# Altium schematic symbol library jlcpcb_2025_04_resistors_extended_1812.schlib: 557 symbols (part 4 of 9)
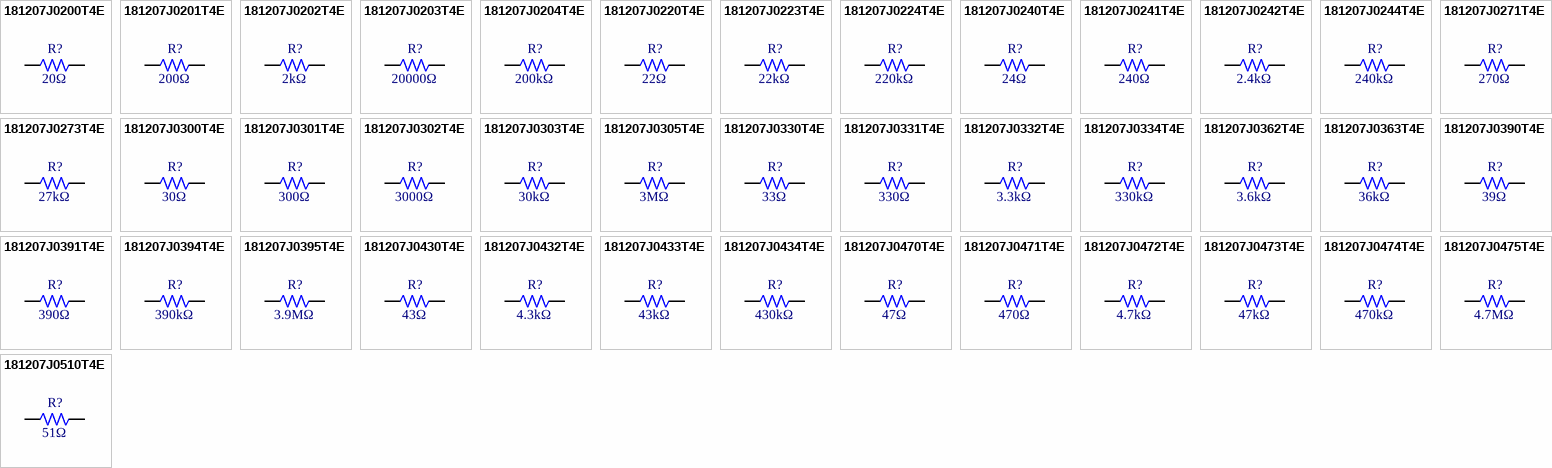
[diagram p16: symbols 181207J0200T4E to 181207J0510T4E]

## 181207J0394T4E
designator R?  Resistance: 390kΩ  (hidden comment: *)
Resistor, 390kΩ, ±5%, 750mW, 200V, ±100ppm/℃, -55℃~+155℃, SMD 1812; Manufacturer: Uniroyal; Manufacturer Part Number: 181207J0394T4E; Supplier 1: LCSC; Supplier Part Number 1: C164857; JLCPCB Part Number: C164857; Power Rating: 750mW; Category: Resistors; Package Size: 1812; JLCPCB Basic Part: Yes; Tolerance: ±5%; Voltage Rating: 200V; Temperature Coefficient: ±100ppm/℃; Temperature Rating: -55℃~+155℃; ComponentLink1Description: Datasheet; ComponentLink1URL: https://wmsc.lcsc.com/wmsc/upload/file/pdf/v2/lcsc/2205312316_UNI-ROYAL-Uniroyal-Elec-181207J0394T4E_C164857.pdf; ComponentLink2Description: JLCPCB Part URL; ComponentLink2URL: https://jlcpcb.com/partdetail/C164857
pins: 1, 2
1 alternate drawing of the same symbol

## 181207J0395T4E
designator R?  Resistance: 3.9MΩ  (hidden comment: *)
Resistor, 3.9MΩ, ±5%, 750mW, 200V, ±100ppm/℃, -55℃~+155℃, SMD 1812; Manufacturer: Uniroyal; Manufacturer Part Number: 181207J0395T4E; Supplier 1: LCSC; Supplier Part Number 1: C421993; JLCPCB Part Number: C421993; Power Rating: 750mW; Category: Resistors; Package Size: 1812; JLCPCB Basic Part: Yes; Tolerance: ±5%; Voltage Rating: 200V; Temperature Coefficient: ±100ppm/℃; Temperature Rating: -55℃~+155℃; ComponentLink1Description: Datasheet; ComponentLink1URL: https://wmsc.lcsc.com/wmsc/upload/file/pdf/v2/lcsc/2205312016_UNI-ROYAL-Uniroyal-Elec-181207J0395T4E_C421993.pdf; ComponentLink2Description: JLCPCB Part URL; ComponentLink2URL: https://jlcpcb.com/partdetail/C421993
pins: 1, 2
1 alternate drawing of the same symbol

## 181207J0430T4E
designator R?  Resistance: 43Ω  (hidden comment: *)
Resistor, 43Ω, ±5%, 750mW, 200V, ±100ppm/℃, -55℃~+155℃, SMD 1812; Manufacturer: Uniroyal; Manufacturer Part Number: 181207J0430T4E; Supplier 1: LCSC; Supplier Part Number 1: C421990; JLCPCB Part Number: C421990; Power Rating: 750mW; Category: Resistors; Package Size: 1812; JLCPCB Basic Part: Yes; Tolerance: ±5%; Voltage Rating: 200V; Temperature Coefficient: ±100ppm/℃; Temperature Rating: -55℃~+155℃; ComponentLink1Description: Datasheet; ComponentLink1URL: https://wmsc.lcsc.com/wmsc/upload/file/pdf/v2/lcsc/2205312016_UNI-ROYAL-Uniroyal-Elec-181207J0430T4E_C421990.pdf; ComponentLink2Description: JLCPCB Part URL; ComponentLink2URL: https://jlcpcb.com/partdetail/C421990
pins: 1, 2
1 alternate drawing of the same symbol

## 181207J0432T4E
designator R?  Resistance: 4.3kΩ  (hidden comment: *)
Resistor, 4.3kΩ, ±5%, 750mW, 200V, ±100ppm/℃, -55℃~+155℃, SMD 1812; Manufacturer: Uniroyal; Manufacturer Part Number: 181207J0432T4E; Supplier 1: LCSC; Supplier Part Number 1: C421988; JLCPCB Part Number: C421988; Power Rating: 750mW; Category: Resistors; Package Size: 1812; JLCPCB Basic Part: Yes; Tolerance: ±5%; Voltage Rating: 200V; Temperature Coefficient: ±100ppm/℃; Temperature Rating: -55℃~+155℃; ComponentLink1Description: Datasheet; ComponentLink1URL: https://wmsc.lcsc.com/wmsc/upload/file/pdf/v2/lcsc/2205312016_UNI-ROYAL-Uniroyal-Elec-181207J0432T4E_C421988.pdf; ComponentLink2Description: JLCPCB Part URL; ComponentLink2URL: https://jlcpcb.com/partdetail/C421988
pins: 1, 2
1 alternate drawing of the same symbol

## 181207J0433T4E
designator R?  Resistance: 43kΩ  (hidden comment: *)
Resistor, 43kΩ, ±5%, 750mW, 200V, ±100ppm/℃, -55℃~+155℃, SMD 1812; Manufacturer: Uniroyal; Manufacturer Part Number: 181207J0433T4E; Supplier 1: LCSC; Supplier Part Number 1: C421987; JLCPCB Part Number: C421987; Power Rating: 750mW; Category: Resistors; Package Size: 1812; JLCPCB Basic Part: Yes; Tolerance: ±5%; Voltage Rating: 200V; Temperature Coefficient: ±100ppm/℃; Temperature Rating: -55℃~+155℃; ComponentLink1Description: Datasheet; ComponentLink1URL: https://wmsc.lcsc.com/wmsc/upload/file/pdf/v2/lcsc/2205312016_UNI-ROYAL-Uniroyal-Elec-181207J0433T4E_C421987.pdf; ComponentLink2Description: JLCPCB Part URL; ComponentLink2URL: https://jlcpcb.com/partdetail/C421987
pins: 1, 2
1 alternate drawing of the same symbol

## 181207J0434T4E
designator R?  Resistance: 430kΩ  (hidden comment: *)
Resistor, 430kΩ, ±5%, 750mW, 200V, ±100ppm/℃, -55℃~+155℃, SMD 1812; Manufacturer: Uniroyal; Manufacturer Part Number: 181207J0434T4E; Supplier 1: LCSC; Supplier Part Number 1: C421986; JLCPCB Part Number: C421986; Power Rating: 750mW; Category: Resistors; Package Size: 1812; JLCPCB Basic Part: Yes; Tolerance: ±5%; Voltage Rating: 200V; Temperature Coefficient: ±100ppm/℃; Temperature Rating: -55℃~+155℃; ComponentLink1Description: Datasheet; ComponentLink1URL: https://wmsc.lcsc.com/wmsc/upload/file/pdf/v2/lcsc/2205312016_UNI-ROYAL-Uniroyal-Elec-181207J0434T4E_C421986.pdf; ComponentLink2Description: JLCPCB Part URL; ComponentLink2URL: https://jlcpcb.com/partdetail/C421986
pins: 1, 2
1 alternate drawing of the same symbol

## 181207J0470T4E
designator R?  Resistance: 47Ω  (hidden comment: *)
Resistor, 47Ω, ±5%, 750mW, 200V, ±100ppm/℃, -55℃~+155℃, SMD 1812; Manufacturer: Uniroyal; Manufacturer Part Number: 181207J0470T4E; Supplier 1: LCSC; Supplier Part Number 1: C62981; JLCPCB Part Number: C62981; Power Rating: 750mW; Category: Resistors; Package Size: 1812; JLCPCB Basic Part: Yes; Tolerance: ±5%; Voltage Rating: 200V; Temperature Coefficient: ±100ppm/℃; Temperature Rating: -55℃~+155℃; ComponentLink1Description: Datasheet; ComponentLink1URL: https://wmsc.lcsc.com/wmsc/upload/file/pdf/v2/lcsc/2205312345_UNI-ROYAL-Uniroyal-Elec-181207J0470T4E_C62981.pdf; ComponentLink2Description: JLCPCB Part URL; ComponentLink2URL: https://jlcpcb.com/partdetail/C62981
pins: 1, 2
1 alternate drawing of the same symbol

## 181207J0471T4E
designator R?  Resistance: 470Ω  (hidden comment: *)
Resistor, 470Ω, ±5%, 750mW, 200V, ±100ppm/℃, -55℃~+155℃, SMD 1812; Manufacturer: Uniroyal; Manufacturer Part Number: 181207J0471T4E; Supplier 1: LCSC; Supplier Part Number 1: C421984; JLCPCB Part Number: C421984; Power Rating: 750mW; Category: Resistors; Package Size: 1812; JLCPCB Basic Part: Yes; Tolerance: ±5%; Voltage Rating: 200V; Temperature Coefficient: ±100ppm/℃; Temperature Rating: -55℃~+155℃; ComponentLink1Description: Datasheet; ComponentLink1URL: https://wmsc.lcsc.com/wmsc/upload/file/pdf/v2/lcsc/2205312016_UNI-ROYAL-Uniroyal-Elec-181207J0471T4E_C421984.pdf; ComponentLink2Description: JLCPCB Part URL; ComponentLink2URL: https://jlcpcb.com/partdetail/C421984
pins: 1, 2
1 alternate drawing of the same symbol

## 181207J0472T4E
designator R?  Resistance: 4.7kΩ  (hidden comment: *)
Resistor, 4.7kΩ, ±5%, 750mW, 200V, ±100ppm/℃, -55℃~+155℃, SMD 1812; Manufacturer: Uniroyal; Manufacturer Part Number: 181207J0472T4E; Supplier 1: LCSC; Supplier Part Number 1: C621100; JLCPCB Part Number: C621100; Power Rating: 750mW; Category: Resistors; Package Size: 1812; JLCPCB Basic Part: Yes; Tolerance: ±5%; Voltage Rating: 200V; Temperature Coefficient: ±100ppm/℃; Temperature Rating: -55℃~+155℃; ComponentLink1Description: Datasheet; ComponentLink1URL: https://wmsc.lcsc.com/wmsc/upload/file/pdf/v2/lcsc/2206011100_UNI-ROYAL-Uniroyal-Elec-181207J0472T4E_C621100.pdf; ComponentLink2Description: JLCPCB Part URL; ComponentLink2URL: https://jlcpcb.com/partdetail/C621100
pins: 1, 2
1 alternate drawing of the same symbol

## 181207J0473T4E
designator R?  Resistance: 47kΩ  (hidden comment: *)
Resistor, 47kΩ, ±5%, 750mW, 200V, ±100ppm/℃, -55℃~+155℃, SMD 1812; Manufacturer: Uniroyal; Manufacturer Part Number: 181207J0473T4E; Supplier 1: LCSC; Supplier Part Number 1: C621102; JLCPCB Part Number: C621102; Power Rating: 750mW; Category: Resistors; Package Size: 1812; JLCPCB Basic Part: Yes; Tolerance: ±5%; Voltage Rating: 200V; Temperature Coefficient: ±100ppm/℃; Temperature Rating: -55℃~+155℃; ComponentLink1Description: Datasheet; ComponentLink1URL: https://wmsc.lcsc.com/wmsc/upload/file/pdf/v2/lcsc/2206011100_UNI-ROYAL-Uniroyal-Elec-181207J0473T4E_C621102.pdf; ComponentLink2Description: JLCPCB Part URL; ComponentLink2URL: https://jlcpcb.com/partdetail/C621102
pins: 1, 2
1 alternate drawing of the same symbol

## 181207J0474T4E
designator R?  Resistance: 470kΩ  (hidden comment: *)
Resistor, 470kΩ, ±5%, 750mW, 200V, ±100ppm/℃, -55℃~+155℃, SMD 1812; Manufacturer: Uniroyal; Manufacturer Part Number: 181207J0474T4E; Supplier 1: LCSC; Supplier Part Number 1: C621101; JLCPCB Part Number: C621101; Power Rating: 750mW; Category: Resistors; Package Size: 1812; JLCPCB Basic Part: Yes; Tolerance: ±5%; Voltage Rating: 200V; Temperature Coefficient: ±100ppm/℃; Temperature Rating: -55℃~+155℃; ComponentLink1Description: Datasheet; ComponentLink1URL: https://wmsc.lcsc.com/wmsc/upload/file/pdf/v2/lcsc/2206011100_UNI-ROYAL-Uniroyal-Elec-181207J0474T4E_C621101.pdf; ComponentLink2Description: JLCPCB Part URL; ComponentLink2URL: https://jlcpcb.com/partdetail/C621101
pins: 1, 2
1 alternate drawing of the same symbol

## 181207J0475T4E
designator R?  Resistance: 4.7MΩ  (hidden comment: *)
Resistor, 4.7MΩ, ±5%, 750mW, 200V, ±100ppm/℃, -55℃~+155℃, SMD 1812; Manufacturer: Uniroyal; Manufacturer Part Number: 181207J0475T4E; Supplier 1: LCSC; Supplier Part Number 1: C421983; JLCPCB Part Number: C421983; Power Rating: 750mW; Category: Resistors; Package Size: 1812; JLCPCB Basic Part: Yes; Tolerance: ±5%; Voltage Rating: 200V; Temperature Coefficient: ±100ppm/℃; Temperature Rating: -55℃~+155℃; ComponentLink1Description: Datasheet; ComponentLink1URL: https://wmsc.lcsc.com/wmsc/upload/file/pdf/v2/lcsc/2205312016_UNI-ROYAL-Uniroyal-Elec-181207J0475T4E_C421983.pdf; ComponentLink2Description: JLCPCB Part URL; ComponentLink2URL: https://jlcpcb.com/partdetail/C421983
pins: 1, 2
1 alternate drawing of the same symbol

## 181207J0510T4E
designator R?  Resistance: 51Ω  (hidden comment: *)
Resistor, 51Ω, ±5%, 750mW, 200V, ±100ppm/℃, -55℃~+155℃, SMD 1812; Manufacturer: Uniroyal; Manufacturer Part Number: 181207J0510T4E; Supplier 1: LCSC; Supplier Part Number 1: C621106; JLCPCB Part Number: C621106; Power Rating: 750mW; Category: Resistors; Package Size: 1812; JLCPCB Basic Part: Yes; Tolerance: ±5%; Voltage Rating: 200V; Temperature Coefficient: ±100ppm/℃; Temperature Rating: -55℃~+155℃; ComponentLink1Description: Datasheet; ComponentLink1URL: https://wmsc.lcsc.com/wmsc/upload/file/pdf/v2/lcsc/2206011100_UNI-ROYAL-Uniroyal-Elec-181207J0510T4E_C621106.pdf; ComponentLink2Description: JLCPCB Part URL; ComponentLink2URL: https://jlcpcb.com/partdetail/C621106
pins: 1, 2
1 alternate drawing of the same symbol

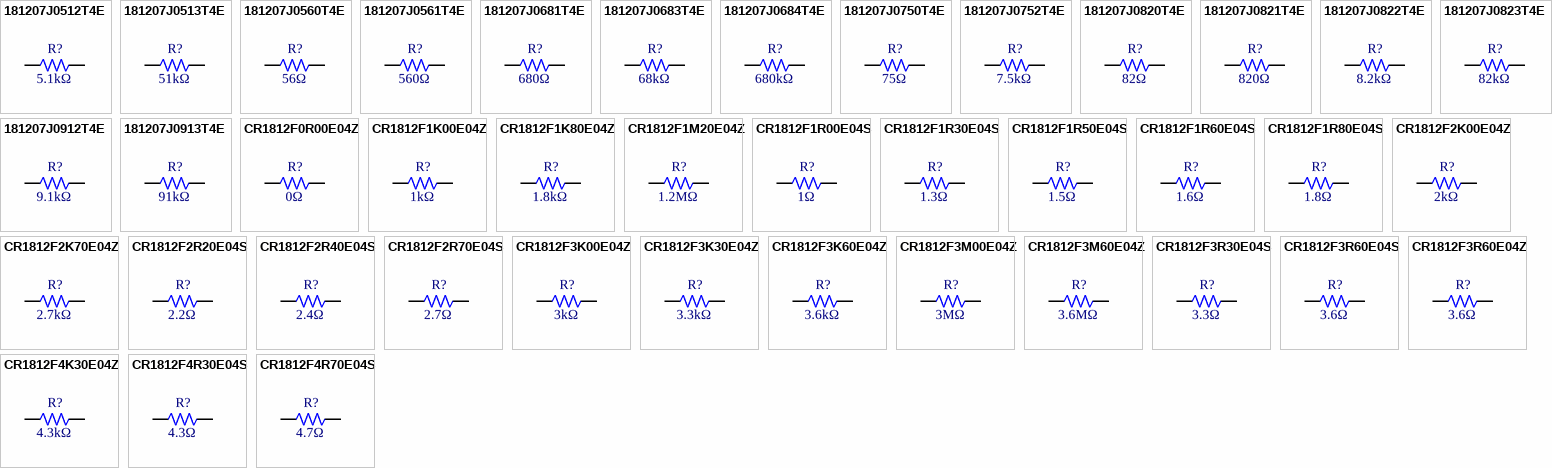
[diagram p5: symbols 181207J0512T4E to CR1812F4R70E04S]

## 181207J0512T4E
designator R?  Resistance: 5.1kΩ  (hidden comment: *)
Resistor, 5.1kΩ, ±5%, 750mW, 200V, ±100ppm/℃, -55℃~+155℃, SMD 1812; Manufacturer: Uniroyal; Manufacturer Part Number: 181207J0512T4E; Supplier 1: LCSC; Supplier Part Number 1: C621103; JLCPCB Part Number: C621103; Power Rating: 750mW; Category: Resistors; Package Size: 1812; JLCPCB Basic Part: Yes; Tolerance: ±5%; Voltage Rating: 200V; Temperature Coefficient: ±100ppm/℃; Temperature Rating: -55℃~+155℃; ComponentLink1Description: Datasheet; ComponentLink1URL: https://wmsc.lcsc.com/wmsc/upload/file/pdf/v2/lcsc/2206011100_UNI-ROYAL-Uniroyal-Elec-181207J0512T4E_C621103.pdf; ComponentLink2Description: JLCPCB Part URL; ComponentLink2URL: https://jlcpcb.com/partdetail/C621103
pins: 1, 2
1 alternate drawing of the same symbol

## 181207J0513T4E
designator R?  Resistance: 51kΩ  (hidden comment: *)
Resistor, 51kΩ, ±5%, 750mW, 200V, ±100ppm/℃, -55℃~+155℃, SMD 1812; Manufacturer: Uniroyal; Manufacturer Part Number: 181207J0513T4E; Supplier 1: LCSC; Supplier Part Number 1: C65311; JLCPCB Part Number: C65311; Power Rating: 750mW; Category: Resistors; Package Size: 1812; JLCPCB Basic Part: Yes; Tolerance: ±5%; Voltage Rating: 200V; Temperature Coefficient: ±100ppm/℃; Temperature Rating: -55℃~+155℃; ComponentLink1Description: Datasheet; ComponentLink1URL: https://wmsc.lcsc.com/wmsc/upload/file/pdf/v2/lcsc/2205312345_UNI-ROYAL-Uniroyal-Elec-181207J0513T4E_C65311.pdf; ComponentLink2Description: JLCPCB Part URL; ComponentLink2URL: https://jlcpcb.com/partdetail/C65311
pins: 1, 2
1 alternate drawing of the same symbol

## 181207J0560T4E
designator R?  Resistance: 56Ω  (hidden comment: *)
Resistor, 56Ω, ±5%, 750mW, 200V, ±100ppm/℃, -55℃~+155℃, SMD 1812; Manufacturer: Uniroyal; Manufacturer Part Number: 181207J0560T4E; Supplier 1: LCSC; Supplier Part Number 1: C621107; JLCPCB Part Number: C621107; Power Rating: 750mW; Category: Resistors; Package Size: 1812; JLCPCB Basic Part: Yes; Tolerance: ±5%; Voltage Rating: 200V; Temperature Coefficient: ±100ppm/℃; Temperature Rating: -55℃~+155℃; ComponentLink1Description: Datasheet; ComponentLink1URL: https://wmsc.lcsc.com/wmsc/upload/file/pdf/v2/lcsc/2206011100_UNI-ROYAL-Uniroyal-Elec-181207J0560T4E_C621107.pdf; ComponentLink2Description: JLCPCB Part URL; ComponentLink2URL: https://jlcpcb.com/partdetail/C621107
pins: 1, 2
1 alternate drawing of the same symbol

## 181207J0561T4E
designator R?  Resistance: 560Ω  (hidden comment: *)
Resistor, 560Ω, ±5%, 750mW, 200V, ±100ppm/℃, -55℃~+155℃, SMD 1812; Manufacturer: Uniroyal; Manufacturer Part Number: 181207J0561T4E; Supplier 1: LCSC; Supplier Part Number 1: C60197; JLCPCB Part Number: C60197; Power Rating: 750mW; Category: Resistors; Package Size: 1812; JLCPCB Basic Part: Yes; Tolerance: ±5%; Voltage Rating: 200V; Temperature Coefficient: ±100ppm/℃; Temperature Rating: -55℃~+155℃; ComponentLink1Description: Datasheet; ComponentLink1URL: https://wmsc.lcsc.com/wmsc/upload/file/pdf/v2/lcsc/2205312345_UNI-ROYAL-Uniroyal-Elec-181207J0561T4E_C60197.pdf; ComponentLink2Description: JLCPCB Part URL; ComponentLink2URL: https://jlcpcb.com/partdetail/C60197
pins: 1, 2
1 alternate drawing of the same symbol

## 181207J0681T4E
designator R?  Resistance: 680Ω  (hidden comment: *)
Resistor, 680Ω, ±5%, 750mW, 200V, ±100ppm/℃, -55℃~+155℃, SMD 1812; Manufacturer: Uniroyal; Manufacturer Part Number: 181207J0681T4E; Supplier 1: LCSC; Supplier Part Number 1: C621110; JLCPCB Part Number: C621110; Power Rating: 750mW; Category: Resistors; Package Size: 1812; JLCPCB Basic Part: Yes; Tolerance: ±5%; Voltage Rating: 200V; Temperature Coefficient: ±100ppm/℃; Temperature Rating: -55℃~+155℃; ComponentLink1Description: Datasheet; ComponentLink1URL: https://wmsc.lcsc.com/wmsc/upload/file/pdf/v2/lcsc/2206011100_UNI-ROYAL-Uniroyal-Elec-181207J0681T4E_C621110.pdf; ComponentLink2Description: JLCPCB Part URL; ComponentLink2URL: https://jlcpcb.com/partdetail/C621110
pins: 1, 2
1 alternate drawing of the same symbol

## 181207J0683T4E
designator R?  Resistance: 68kΩ  (hidden comment: *)
Resistor, 68kΩ, ±5%, 750mW, 200V, ±100ppm/℃, -55℃~+155℃, SMD 1812; Manufacturer: Uniroyal; Manufacturer Part Number: 181207J0683T4E; Supplier 1: LCSC; Supplier Part Number 1: C2765513; JLCPCB Part Number: C2765513; Power Rating: 750mW; Category: Resistors; Package Size: 1812; JLCPCB Basic Part: Yes; Tolerance: ±5%; Voltage Rating: 200V; Temperature Coefficient: ±100ppm/℃; Temperature Rating: -55℃~+155℃; ComponentLink1Description: Datasheet; ComponentLink1URL: https://wmsc.lcsc.com/wmsc/upload/file/pdf/v2/lcsc/2206011045_UNI-ROYAL-Uniroyal-Elec-181207J0683T4E_C2765513.pdf; ComponentLink2Description: JLCPCB Part URL; ComponentLink2URL: https://jlcpcb.com/partdetail/C2765513
pins: 1, 2
1 alternate drawing of the same symbol

## 181207J0684T4E
designator R?  Resistance: 680kΩ  (hidden comment: *)
Resistor, 680kΩ, ±5%, 750mW, 200V, ±100ppm/℃, -55℃~+155℃, SMD 1812; Manufacturer: Uniroyal; Manufacturer Part Number: 181207J0684T4E; Supplier 1: LCSC; Supplier Part Number 1: C421973; JLCPCB Part Number: C421973; Power Rating: 750mW; Category: Resistors; Package Size: 1812; JLCPCB Basic Part: Yes; Tolerance: ±5%; Voltage Rating: 200V; Temperature Coefficient: ±100ppm/℃; Temperature Rating: -55℃~+155℃; ComponentLink1Description: Datasheet; ComponentLink1URL: https://wmsc.lcsc.com/wmsc/upload/file/pdf/v2/lcsc/2205312016_UNI-ROYAL-Uniroyal-Elec-181207J0684T4E_C421973.pdf; ComponentLink2Description: JLCPCB Part URL; ComponentLink2URL: https://jlcpcb.com/partdetail/C421973
pins: 1, 2
1 alternate drawing of the same symbol

## 181207J0750T4E
designator R?  Resistance: 75Ω  (hidden comment: *)
Resistor, 75Ω, ±5%, 750mW, 200V, ±100ppm/℃, -55℃~+155℃, SMD 1812; Manufacturer: Uniroyal; Manufacturer Part Number: 181207J0750T4E; Supplier 1: LCSC; Supplier Part Number 1: C421972; JLCPCB Part Number: C421972; Power Rating: 750mW; Category: Resistors; Package Size: 1812; JLCPCB Basic Part: Yes; Tolerance: ±5%; Voltage Rating: 200V; Temperature Coefficient: ±100ppm/℃; Temperature Rating: -55℃~+155℃; ComponentLink1Description: Datasheet; ComponentLink1URL: https://wmsc.lcsc.com/wmsc/upload/file/pdf/v2/lcsc/2205312016_UNI-ROYAL-Uniroyal-Elec-181207J0750T4E_C421972.pdf; ComponentLink2Description: JLCPCB Part URL; ComponentLink2URL: https://jlcpcb.com/partdetail/C421972
pins: 1, 2
1 alternate drawing of the same symbol

## 181207J0752T4E
designator R?  Resistance: 7.5kΩ  (hidden comment: *)
Resistor, 7.5kΩ, ±5%, 750mW, 200V, ±100ppm/℃, -55℃~+155℃, SMD 1812; Manufacturer: Uniroyal; Manufacturer Part Number: 181207J0752T4E; Supplier 1: LCSC; Supplier Part Number 1: C421970; JLCPCB Part Number: C421970; Power Rating: 750mW; Category: Resistors; Package Size: 1812; JLCPCB Basic Part: Yes; Tolerance: ±5%; Voltage Rating: 200V; Temperature Coefficient: ±100ppm/℃; Temperature Rating: -55℃~+155℃; ComponentLink1Description: Datasheet; ComponentLink1URL: https://wmsc.lcsc.com/wmsc/upload/file/pdf/v2/lcsc/2205312016_UNI-ROYAL-Uniroyal-Elec-181207J0752T4E_C421970.pdf; ComponentLink2Description: JLCPCB Part URL; ComponentLink2URL: https://jlcpcb.com/partdetail/C421970
pins: 1, 2
1 alternate drawing of the same symbol

## 181207J0820T4E
designator R?  Resistance: 82Ω  (hidden comment: *)
Resistor, 82Ω, ±5%, 750mW, 200V, ±100ppm/℃, -55℃~+155℃, SMD 1812; Manufacturer: Uniroyal; Manufacturer Part Number: 181207J0820T4E; Supplier 1: LCSC; Supplier Part Number 1: C421966; JLCPCB Part Number: C421966; Power Rating: 750mW; Category: Resistors; Package Size: 1812; JLCPCB Basic Part: Yes; Tolerance: ±5%; Voltage Rating: 200V; Temperature Coefficient: ±100ppm/℃; Temperature Rating: -55℃~+155℃; ComponentLink1Description: Datasheet; ComponentLink1URL: https://wmsc.lcsc.com/wmsc/upload/file/pdf/v2/lcsc/2205312016_UNI-ROYAL-Uniroyal-Elec-181207J0820T4E_C421966.pdf; ComponentLink2Description: JLCPCB Part URL; ComponentLink2URL: https://jlcpcb.com/partdetail/C421966
pins: 1, 2
1 alternate drawing of the same symbol

## 181207J0821T4E
designator R?  Resistance: 820Ω  (hidden comment: *)
Resistor, 820Ω, ±5%, 750mW, 200V, ±100ppm/℃, -55℃~+155℃, SMD 1812; Manufacturer: Uniroyal; Manufacturer Part Number: 181207J0821T4E; Supplier 1: LCSC; Supplier Part Number 1: C421965; JLCPCB Part Number: C421965; Power Rating: 750mW; Category: Resistors; Package Size: 1812; JLCPCB Basic Part: Yes; Tolerance: ±5%; Voltage Rating: 200V; Temperature Coefficient: ±100ppm/℃; Temperature Rating: -55℃~+155℃; ComponentLink1Description: Datasheet; ComponentLink1URL: https://wmsc.lcsc.com/wmsc/upload/file/pdf/v2/lcsc/2205312016_UNI-ROYAL-Uniroyal-Elec-181207J0821T4E_C421965.pdf; ComponentLink2Description: JLCPCB Part URL; ComponentLink2URL: https://jlcpcb.com/partdetail/C421965
pins: 1, 2
1 alternate drawing of the same symbol

## 181207J0822T4E
designator R?  Resistance: 8.2kΩ  (hidden comment: *)
Resistor, 8.2kΩ, ±5%, 750mW, 200V, ±100ppm/℃, -55℃~+155℃, SMD 1812; Manufacturer: Uniroyal; Manufacturer Part Number: 181207J0822T4E; Supplier 1: LCSC; Supplier Part Number 1: C421964; JLCPCB Part Number: C421964; Power Rating: 750mW; Category: Resistors; Package Size: 1812; JLCPCB Basic Part: Yes; Tolerance: ±5%; Voltage Rating: 200V; Temperature Coefficient: ±100ppm/℃; Temperature Rating: -55℃~+155℃; ComponentLink1Description: Datasheet; ComponentLink1URL: https://wmsc.lcsc.com/wmsc/upload/file/pdf/v2/lcsc/2205312016_UNI-ROYAL-Uniroyal-Elec-181207J0822T4E_C421964.pdf; ComponentLink2Description: JLCPCB Part URL; ComponentLink2URL: https://jlcpcb.com/partdetail/C421964
pins: 1, 2
1 alternate drawing of the same symbol

## 181207J0823T4E
designator R?  Resistance: 82kΩ  (hidden comment: *)
Resistor, 82kΩ, ±5%, 750mW, 200V, ±100ppm/℃, -55℃~+155℃, SMD 1812; Manufacturer: Uniroyal; Manufacturer Part Number: 181207J0823T4E; Supplier 1: LCSC; Supplier Part Number 1: C421963; JLCPCB Part Number: C421963; Power Rating: 750mW; Category: Resistors; Package Size: 1812; JLCPCB Basic Part: Yes; Tolerance: ±5%; Voltage Rating: 200V; Temperature Coefficient: ±100ppm/℃; Temperature Rating: -55℃~+155℃; ComponentLink1Description: Datasheet; ComponentLink1URL: https://wmsc.lcsc.com/wmsc/upload/file/pdf/v2/lcsc/2205312016_UNI-ROYAL-Uniroyal-Elec-181207J0823T4E_C421963.pdf; ComponentLink2Description: JLCPCB Part URL; ComponentLink2URL: https://jlcpcb.com/partdetail/C421963
pins: 1, 2
1 alternate drawing of the same symbol

## 181207J0912T4E
designator R?  Resistance: 9.1kΩ  (hidden comment: *)
Resistor, 9.1kΩ, ±5%, 750mW, 200V, ±100ppm/℃, -55℃~+155℃, SMD 1812; Manufacturer: Uniroyal; Manufacturer Part Number: 181207J0912T4E; Supplier 1: LCSC; Supplier Part Number 1: C421958; JLCPCB Part Number: C421958; Power Rating: 750mW; Category: Resistors; Package Size: 1812; JLCPCB Basic Part: Yes; Tolerance: ±5%; Voltage Rating: 200V; Temperature Coefficient: ±100ppm/℃; Temperature Rating: -55℃~+155℃; ComponentLink1Description: Datasheet; ComponentLink1URL: https://wmsc.lcsc.com/wmsc/upload/file/pdf/v2/lcsc/2205312016_UNI-ROYAL-Uniroyal-Elec-181207J0912T4E_C421958.pdf; ComponentLink2Description: JLCPCB Part URL; ComponentLink2URL: https://jlcpcb.com/partdetail/C421958
pins: 1, 2
1 alternate drawing of the same symbol

## 181207J0913T4E
designator R?  Resistance: 91kΩ  (hidden comment: *)
Resistor, 91kΩ, ±5%, 750mW, 200V, ±100ppm/℃, -55℃~+155℃, SMD 1812; Manufacturer: Uniroyal; Manufacturer Part Number: 181207J0913T4E; Supplier 1: LCSC; Supplier Part Number 1: C421957; JLCPCB Part Number: C421957; Power Rating: 750mW; Category: Resistors; Package Size: 1812; JLCPCB Basic Part: Yes; Tolerance: ±5%; Voltage Rating: 200V; Temperature Coefficient: ±100ppm/℃; Temperature Rating: -55℃~+155℃; ComponentLink1Description: Datasheet; ComponentLink1URL: https://wmsc.lcsc.com/wmsc/upload/file/pdf/v2/lcsc/2205312016_UNI-ROYAL-Uniroyal-Elec-181207J0913T4E_C421957.pdf; ComponentLink2Description: JLCPCB Part URL; ComponentLink2URL: https://jlcpcb.com/partdetail/C421957
pins: 1, 2
1 alternate drawing of the same symbol

## CR1812F0R00E04Z
designator R?  Resistance: 0Ω  (hidden comment: *)
Resistor, 0Ω, ±1%, 500mW, 200V, -55℃~+155℃, SMD 1812; Manufacturer: Uniroyal; Manufacturer Part Number: CR1812F0R00E04Z; Supplier 1: LCSC; Supplier Part Number 1: C245661; JLCPCB Part Number: C245661; Power Rating: 500mW; Category: Resistors; Package Size: 1812; JLCPCB Basic Part: Yes; Tolerance: ±1%; Voltage Rating: 200V; Temperature Rating: -55℃~+155℃; ComponentLink1Description: Datasheet; ComponentLink1URL: https://wmsc.lcsc.com/wmsc/upload/file/pdf/v2/lcsc/2304140030_Ever-Ohms-Tech-CR1812F0R00E04Z_C245661.pdf; ComponentLink2Description: JLCPCB Part URL; ComponentLink2URL: https://jlcpcb.com/partdetail/C245661
pins: 1, 2
1 alternate drawing of the same symbol

## CR1812F1K00E04Z
designator R?  Resistance: 1kΩ  (hidden comment: *)
Resistor, 1kΩ, ±1%, 500mW, 200V, ±100ppm/℃, -55℃~+155℃, SMD 1812; Manufacturer: Uniroyal; Manufacturer Part Number: CR1812F1K00E04Z; Supplier 1: LCSC; Supplier Part Number 1: C174736; JLCPCB Part Number: C174736; Power Rating: 500mW; Category: Resistors; Package Size: 1812; JLCPCB Basic Part: Yes; Tolerance: ±1%; Voltage Rating: 200V; Temperature Coefficient: ±100ppm/℃; Temperature Rating: -55℃~+155℃; ComponentLink1Description: Datasheet; ComponentLink1URL: https://wmsc.lcsc.com/wmsc/upload/file/pdf/v2/lcsc/2304140030_Ever-Ohms-Tech-CR1812F1K00E04Z_C174736.pdf; ComponentLink2Description: JLCPCB Part URL; ComponentLink2URL: https://jlcpcb.com/partdetail/C174736
pins: 1, 2
1 alternate drawing of the same symbol

## CR1812F1K80E04Z
designator R?  Resistance: 1.8kΩ  (hidden comment: *)
Resistor, 1.8kΩ, ±1%, 500mW, 200V, ±100ppm/℃, -55℃~+155℃, SMD 1812; Manufacturer: Uniroyal; Manufacturer Part Number: CR1812F1K80E04Z; Supplier 1: LCSC; Supplier Part Number 1: C174740; JLCPCB Part Number: C174740; Power Rating: 500mW; Category: Resistors; Package Size: 1812; JLCPCB Basic Part: Yes; Tolerance: ±1%; Voltage Rating: 200V; Temperature Coefficient: ±100ppm/℃; Temperature Rating: -55℃~+155℃; ComponentLink1Description: Datasheet; ComponentLink1URL: https://wmsc.lcsc.com/wmsc/upload/file/pdf/v2/lcsc/2304140030_Ever-Ohms-Tech-CR1812F1K80E04Z_C174740.pdf; ComponentLink2Description: JLCPCB Part URL; ComponentLink2URL: https://jlcpcb.com/partdetail/C174740
pins: 1, 2
1 alternate drawing of the same symbol

## CR1812F1M20E04Z
designator R?  Resistance: 1.2MΩ  (hidden comment: *)
Resistor, 1.2MΩ, ±1%, 500mW, 200V, ±100ppm/℃, -55℃~+155℃, SMD 1812; Manufacturer: Uniroyal; Manufacturer Part Number: CR1812F1M20E04Z; Supplier 1: LCSC; Supplier Part Number 1: C174792; JLCPCB Part Number: C174792; Power Rating: 500mW; Category: Resistors; Package Size: 1812; JLCPCB Basic Part: Yes; Tolerance: ±1%; Voltage Rating: 200V; Temperature Coefficient: ±100ppm/℃; Temperature Rating: -55℃~+155℃; ComponentLink1Description: Datasheet; ComponentLink1URL: https://wmsc.lcsc.com/wmsc/upload/file/pdf/v2/lcsc/2304140030_Ever-Ohms-Tech-CR1812F1M20E04Z_C174792.pdf; ComponentLink2Description: JLCPCB Part URL; ComponentLink2URL: https://jlcpcb.com/partdetail/C174792
pins: 1, 2
1 alternate drawing of the same symbol

## CR1812F1R00E04S
designator R?  Resistance: 1Ω  (hidden comment: *)
Resistor, 1Ω, ±1%, 750mW, 200V, ±400ppm/℃, -55℃~+155℃, SMD 1812; Manufacturer: Uniroyal; Manufacturer Part Number: CR1812F1R00E04S; Supplier 1: LCSC; Supplier Part Number 1: C174678; JLCPCB Part Number: C174678; Power Rating: 750mW; Category: Resistors; Package Size: 1812; JLCPCB Basic Part: Yes; Tolerance: ±1%; Voltage Rating: 200V; Temperature Coefficient: ±400ppm/℃; Temperature Rating: -55℃~+155℃; ComponentLink1Description: Datasheet; ComponentLink1URL: https://wmsc.lcsc.com/wmsc/upload/file/pdf/v2/lcsc/2304140030_Ever-Ohms-Tech-CR1812F1R00E04S_C174678.pdf; ComponentLink2Description: JLCPCB Part URL; ComponentLink2URL: https://jlcpcb.com/partdetail/C174678
pins: 1, 2
1 alternate drawing of the same symbol

## CR1812F1R30E04S
designator R?  Resistance: 1.3Ω  (hidden comment: *)
Resistor, 1.3Ω, ±1%, 500mW, 200V, ±400ppm/℃, -55℃~+155℃, SMD 1812; Manufacturer: Uniroyal; Manufacturer Part Number: CR1812F1R30E04S; Supplier 1: LCSC; Supplier Part Number 1: C174680; JLCPCB Part Number: C174680; Power Rating: 500mW; Category: Resistors; Package Size: 1812; JLCPCB Basic Part: Yes; Tolerance: ±1%; Voltage Rating: 200V; Temperature Coefficient: ±400ppm/℃; Temperature Rating: -55℃~+155℃; ComponentLink1Description: Datasheet; ComponentLink1URL: https://wmsc.lcsc.com/wmsc/upload/file/pdf/v2/lcsc/2304140030_Ever-Ohms-Tech-CR1812F1R30E04S_C174680.pdf; ComponentLink2Description: JLCPCB Part URL; ComponentLink2URL: https://jlcpcb.com/partdetail/C174680
pins: 1, 2
1 alternate drawing of the same symbol

## CR1812F1R50E04S
designator R?  Resistance: 1.5Ω  (hidden comment: *)
Resistor, 1.5Ω, ±1%, 500mW, 200V, ±400ppm/℃, -55℃~+155℃, SMD 1812; Manufacturer: Uniroyal; Manufacturer Part Number: CR1812F1R50E04S; Supplier 1: LCSC; Supplier Part Number 1: C149822; JLCPCB Part Number: C149822; Power Rating: 500mW; Category: Resistors; Package Size: 1812; JLCPCB Basic Part: Yes; Tolerance: ±1%; Voltage Rating: 200V; Temperature Coefficient: ±400ppm/℃; Temperature Rating: -55℃~+155℃; ComponentLink1Description: Datasheet; ComponentLink1URL: https://wmsc.lcsc.com/wmsc/upload/file/pdf/v2/lcsc/2304140030_Ever-Ohms-Tech-CR1812F1R50E04S_C149822.pdf; ComponentLink2Description: JLCPCB Part URL; ComponentLink2URL: https://jlcpcb.com/partdetail/C149822
pins: 1, 2
1 alternate drawing of the same symbol

## CR1812F1R60E04S
designator R?  Resistance: 1.6Ω  (hidden comment: *)
Resistor, 1.6Ω, ±1%, 500mW, 200V, ±400ppm/℃, -55℃~+155℃, SMD 1812; Manufacturer: Uniroyal; Manufacturer Part Number: CR1812F1R60E04S; Supplier 1: LCSC; Supplier Part Number 1: C174681; JLCPCB Part Number: C174681; Power Rating: 500mW; Category: Resistors; Package Size: 1812; JLCPCB Basic Part: Yes; Tolerance: ±1%; Voltage Rating: 200V; Temperature Coefficient: ±400ppm/℃; Temperature Rating: -55℃~+155℃; ComponentLink1Description: Datasheet; ComponentLink1URL: https://wmsc.lcsc.com/wmsc/upload/file/pdf/v2/lcsc/2304140030_Ever-Ohms-Tech-CR1812F1R60E04S_C174681.pdf; ComponentLink2Description: JLCPCB Part URL; ComponentLink2URL: https://jlcpcb.com/partdetail/C174681
pins: 1, 2
1 alternate drawing of the same symbol

## CR1812F1R80E04S
designator R?  Resistance: 1.8Ω  (hidden comment: *)
Resistor, 1.8Ω, ±1%, 500mW, 200V, ±400ppm/℃, -55℃~+155℃, SMD 1812; Manufacturer: Uniroyal; Manufacturer Part Number: CR1812F1R80E04S; Supplier 1: LCSC; Supplier Part Number 1: C174682; JLCPCB Part Number: C174682; Power Rating: 500mW; Category: Resistors; Package Size: 1812; JLCPCB Basic Part: Yes; Tolerance: ±1%; Voltage Rating: 200V; Temperature Coefficient: ±400ppm/℃; Temperature Rating: -55℃~+155℃; ComponentLink1Description: Datasheet; ComponentLink1URL: https://wmsc.lcsc.com/wmsc/upload/file/pdf/v2/lcsc/2304140030_Ever-Ohms-Tech-CR1812F1R80E04S_C174682.pdf; ComponentLink2Description: JLCPCB Part URL; ComponentLink2URL: https://jlcpcb.com/partdetail/C174682
pins: 1, 2
1 alternate drawing of the same symbol

## CR1812F2K00E04Z
designator R?  Resistance: 2kΩ  (hidden comment: *)
Resistor, 2kΩ, ±1%, 500mW, 200V, ±100ppm/℃, -55℃~+155℃, SMD 1812; Manufacturer: Uniroyal; Manufacturer Part Number: CR1812F2K00E04Z; Supplier 1: LCSC; Supplier Part Number 1: C174741; JLCPCB Part Number: C174741; Power Rating: 500mW; Category: Resistors; Package Size: 1812; JLCPCB Basic Part: Yes; Tolerance: ±1%; Voltage Rating: 200V; Temperature Coefficient: ±100ppm/℃; Temperature Rating: -55℃~+155℃; ComponentLink1Description: Datasheet; ComponentLink1URL: https://wmsc.lcsc.com/wmsc/upload/file/pdf/v2/lcsc/2304140030_Ever-Ohms-Tech-CR1812F2K00E04Z_C174741.pdf; ComponentLink2Description: JLCPCB Part URL; ComponentLink2URL: https://jlcpcb.com/partdetail/C174741
pins: 1, 2
1 alternate drawing of the same symbol

## CR1812F2K70E04Z
designator R?  Resistance: 2.7kΩ  (hidden comment: *)
Resistor, 2.7kΩ, ±1%, 500mW, 200V, ±100ppm/℃, -55℃~+155℃, SMD 1812; Manufacturer: Uniroyal; Manufacturer Part Number: CR1812F2K70E04Z; Supplier 1: LCSC; Supplier Part Number 1: C174744; JLCPCB Part Number: C174744; Power Rating: 500mW; Category: Resistors; Package Size: 1812; JLCPCB Basic Part: Yes; Tolerance: ±1%; Voltage Rating: 200V; Temperature Coefficient: ±100ppm/℃; Temperature Rating: -55℃~+155℃; ComponentLink1Description: Datasheet; ComponentLink1URL: https://wmsc.lcsc.com/wmsc/upload/file/pdf/v2/lcsc/2304140030_Ever-Ohms-Tech-CR1812F2K70E04Z_C174744.pdf; ComponentLink2Description: JLCPCB Part URL; ComponentLink2URL: https://jlcpcb.com/partdetail/C174744
pins: 1, 2
1 alternate drawing of the same symbol

## CR1812F2R20E04S
designator R?  Resistance: 2.2Ω  (hidden comment: *)
Resistor, 2.2Ω, ±1%, 500mW, 200V, ±400ppm/℃, -55℃~+155℃, SMD 1812; Manufacturer: Uniroyal; Manufacturer Part Number: CR1812F2R20E04S; Supplier 1: LCSC; Supplier Part Number 1: C174683; JLCPCB Part Number: C174683; Power Rating: 500mW; Category: Resistors; Package Size: 1812; JLCPCB Basic Part: Yes; Tolerance: ±1%; Voltage Rating: 200V; Temperature Coefficient: ±400ppm/℃; Temperature Rating: -55℃~+155℃; ComponentLink1Description: Datasheet; ComponentLink1URL: https://wmsc.lcsc.com/wmsc/upload/file/pdf/v2/lcsc/2304140030_Ever-Ohms-Tech-CR1812F2R20E04S_C174683.pdf; ComponentLink2Description: JLCPCB Part URL; ComponentLink2URL: https://jlcpcb.com/partdetail/C174683
pins: 1, 2
1 alternate drawing of the same symbol

## CR1812F2R40E04S
designator R?  Resistance: 2.4Ω  (hidden comment: *)
Resistor, 2.4Ω, ±1%, 500mW, 200V, ±400ppm/℃, -55℃~+155℃, SMD 1812; Manufacturer: Uniroyal; Manufacturer Part Number: CR1812F2R40E04S; Supplier 1: LCSC; Supplier Part Number 1: C174684; JLCPCB Part Number: C174684; Power Rating: 500mW; Category: Resistors; Package Size: 1812; JLCPCB Basic Part: Yes; Tolerance: ±1%; Voltage Rating: 200V; Temperature Coefficient: ±400ppm/℃; Temperature Rating: -55℃~+155℃; ComponentLink1Description: Datasheet; ComponentLink1URL: https://wmsc.lcsc.com/wmsc/upload/file/pdf/v2/lcsc/2304140030_Ever-Ohms-Tech-CR1812F2R40E04S_C174684.pdf; ComponentLink2Description: JLCPCB Part URL; ComponentLink2URL: https://jlcpcb.com/partdetail/C174684
pins: 1, 2
1 alternate drawing of the same symbol

## CR1812F2R70E04S
designator R?  Resistance: 2.7Ω  (hidden comment: *)
Resistor, 2.7Ω, ±1%, 500mW, 200V, ±400ppm/℃, -55℃~+155℃, SMD 1812; Manufacturer: Uniroyal; Manufacturer Part Number: CR1812F2R70E04S; Supplier 1: LCSC; Supplier Part Number 1: C174685; JLCPCB Part Number: C174685; Power Rating: 500mW; Category: Resistors; Package Size: 1812; JLCPCB Basic Part: Yes; Tolerance: ±1%; Voltage Rating: 200V; Temperature Coefficient: ±400ppm/℃; Temperature Rating: -55℃~+155℃; ComponentLink1Description: Datasheet; ComponentLink1URL: https://wmsc.lcsc.com/wmsc/upload/file/pdf/v2/lcsc/2304140030_Ever-Ohms-Tech-CR1812F2R70E04S_C174685.pdf; ComponentLink2Description: JLCPCB Part URL; ComponentLink2URL: https://jlcpcb.com/partdetail/C174685
pins: 1, 2
1 alternate drawing of the same symbol

## CR1812F3K00E04Z
designator R?  Resistance: 3kΩ  (hidden comment: *)
Resistor, 3kΩ, ±1%, 500mW, 200V, ±100ppm/℃, -55℃~+155℃, SMD 1812; Manufacturer: Uniroyal; Manufacturer Part Number: CR1812F3K00E04Z; Supplier 1: LCSC; Supplier Part Number 1: C174745; JLCPCB Part Number: C174745; Power Rating: 500mW; Category: Resistors; Package Size: 1812; JLCPCB Basic Part: Yes; Tolerance: ±1%; Voltage Rating: 200V; Temperature Coefficient: ±100ppm/℃; Temperature Rating: -55℃~+155℃; ComponentLink1Description: Datasheet; ComponentLink1URL: https://wmsc.lcsc.com/wmsc/upload/file/pdf/v2/lcsc/2304140030_Ever-Ohms-Tech-CR1812F3K00E04Z_C174745.pdf; ComponentLink2Description: JLCPCB Part URL; ComponentLink2URL: https://jlcpcb.com/partdetail/C174745
pins: 1, 2
1 alternate drawing of the same symbol

## CR1812F3K30E04Z
designator R?  Resistance: 3.3kΩ  (hidden comment: *)
Resistor, 3.3kΩ, ±1%, 500mW, 200V, ±100ppm/℃, -55℃~+155℃, SMD 1812; Manufacturer: Uniroyal; Manufacturer Part Number: CR1812F3K30E04Z; Supplier 1: LCSC; Supplier Part Number 1: C174746; JLCPCB Part Number: C174746; Power Rating: 500mW; Category: Resistors; Package Size: 1812; JLCPCB Basic Part: Yes; Tolerance: ±1%; Voltage Rating: 200V; Temperature Coefficient: ±100ppm/℃; Temperature Rating: -55℃~+155℃; ComponentLink1Description: Datasheet; ComponentLink1URL: https://wmsc.lcsc.com/wmsc/upload/file/pdf/v2/lcsc/2304140030_Ever-Ohms-Tech-CR1812F3K30E04Z_C174746.pdf; ComponentLink2Description: JLCPCB Part URL; ComponentLink2URL: https://jlcpcb.com/partdetail/C174746
pins: 1, 2
1 alternate drawing of the same symbol

## CR1812F3K60E04Z
designator R?  Resistance: 3.6kΩ  (hidden comment: *)
Resistor, 3.6kΩ, ±1%, 500mW, 200V, ±100ppm/℃, -55℃~+155℃, SMD 1812; Manufacturer: Uniroyal; Manufacturer Part Number: CR1812F3K60E04Z; Supplier 1: LCSC; Supplier Part Number 1: C174747; JLCPCB Part Number: C174747; Power Rating: 500mW; Category: Resistors; Package Size: 1812; JLCPCB Basic Part: Yes; Tolerance: ±1%; Voltage Rating: 200V; Temperature Coefficient: ±100ppm/℃; Temperature Rating: -55℃~+155℃; ComponentLink1Description: Datasheet; ComponentLink1URL: https://wmsc.lcsc.com/wmsc/upload/file/pdf/v2/lcsc/2304140030_Ever-Ohms-Tech-CR1812F3K60E04Z_C174747.pdf; ComponentLink2Description: JLCPCB Part URL; ComponentLink2URL: https://jlcpcb.com/partdetail/C174747
pins: 1, 2
1 alternate drawing of the same symbol

## CR1812F3M00E04Z
designator R?  Resistance: 3MΩ  (hidden comment: *)
Resistor, 3MΩ, ±1%, 500mW, 200V, ±100ppm/℃, -55℃~+155℃, SMD 1812; Manufacturer: Uniroyal; Manufacturer Part Number: CR1812F3M00E04Z; Supplier 1: LCSC; Supplier Part Number 1: C174798; JLCPCB Part Number: C174798; Power Rating: 500mW; Category: Resistors; Package Size: 1812; JLCPCB Basic Part: Yes; Tolerance: ±1%; Voltage Rating: 200V; Temperature Coefficient: ±100ppm/℃; Temperature Rating: -55℃~+155℃; ComponentLink1Description: Datasheet; ComponentLink1URL: https://wmsc.lcsc.com/wmsc/upload/file/pdf/v2/lcsc/2304140030_Ever-Ohms-Tech-CR1812F3M00E04Z_C174798.pdf; ComponentLink2Description: JLCPCB Part URL; ComponentLink2URL: https://jlcpcb.com/partdetail/C174798
pins: 1, 2
1 alternate drawing of the same symbol

## CR1812F3M60E04Z
designator R?  Resistance: 3.6MΩ  (hidden comment: *)
Resistor, 3.6MΩ, ±1%, 500mW, 200V, ±100ppm/℃, -55℃~+155℃, SMD 1812; Manufacturer: Uniroyal; Manufacturer Part Number: CR1812F3M60E04Z; Supplier 1: LCSC; Supplier Part Number 1: C174800; JLCPCB Part Number: C174800; Power Rating: 500mW; Category: Resistors; Package Size: 1812; JLCPCB Basic Part: Yes; Tolerance: ±1%; Voltage Rating: 200V; Temperature Coefficient: ±100ppm/℃; Temperature Rating: -55℃~+155℃; ComponentLink1Description: Datasheet; ComponentLink1URL: https://wmsc.lcsc.com/wmsc/upload/file/pdf/v2/lcsc/2304140030_Ever-Ohms-Tech-CR1812F3M60E04Z_C174800.pdf; ComponentLink2Description: JLCPCB Part URL; ComponentLink2URL: https://jlcpcb.com/partdetail/C174800
pins: 1, 2
1 alternate drawing of the same symbol

## CR1812F3R30E04S
designator R?  Resistance: 3.3Ω  (hidden comment: *)
Resistor, 3.3Ω, ±1%, 500mW, 200V, ±400ppm/℃, -55℃~+155℃, SMD 1812; Manufacturer: Uniroyal; Manufacturer Part Number: CR1812F3R30E04S; Supplier 1: LCSC; Supplier Part Number 1: C174687; JLCPCB Part Number: C174687; Power Rating: 500mW; Category: Resistors; Package Size: 1812; JLCPCB Basic Part: Yes; Tolerance: ±1%; Voltage Rating: 200V; Temperature Coefficient: ±400ppm/℃; Temperature Rating: -55℃~+155℃; ComponentLink1Description: Datasheet; ComponentLink1URL: https://wmsc.lcsc.com/wmsc/upload/file/pdf/v2/lcsc/2304140030_Ever-Ohms-Tech-CR1812F3R30E04S_C174687.pdf; ComponentLink2Description: JLCPCB Part URL; ComponentLink2URL: https://jlcpcb.com/partdetail/C174687
pins: 1, 2
1 alternate drawing of the same symbol

## CR1812F3R60E04S
designator R?  Resistance: 3.6Ω  (hidden comment: *)
Resistor, 3.6Ω, ±1%, 500mW, 200V, ±400ppm/℃, -55℃~+155℃, SMD 1812; Manufacturer: Uniroyal; Manufacturer Part Number: CR1812F3R60E04S; Supplier 1: LCSC; Supplier Part Number 1: C174688; JLCPCB Part Number: C174688; Power Rating: 500mW; Category: Resistors; Package Size: 1812; JLCPCB Basic Part: Yes; Tolerance: ±1%; Voltage Rating: 200V; Temperature Coefficient: ±400ppm/℃; Temperature Rating: -55℃~+155℃; ComponentLink1Description: Datasheet; ComponentLink1URL: https://wmsc.lcsc.com/wmsc/upload/file/pdf/v2/lcsc/2304140030_Ever-Ohms-Tech-CR1812F3R60E04S_C174688.pdf; ComponentLink2Description: JLCPCB Part URL; ComponentLink2URL: https://jlcpcb.com/partdetail/C174688
pins: 1, 2
1 alternate drawing of the same symbol

## CR1812F3R60E04Z
designator R?  Resistance: 3.6Ω  (hidden comment: *)
Resistor, 3.6Ω, ±1%, 750mW, 200V, ±300ppm/℃, -55℃~+155℃, SMD 1812; Manufacturer: Uniroyal; Manufacturer Part Number: CR1812F3R60E04Z; Supplier 1: LCSC; Supplier Part Number 1: C429054; JLCPCB Part Number: C429054; Power Rating: 750mW; Category: Resistors; Package Size: 1812; JLCPCB Basic Part: Yes; Tolerance: ±1%; Voltage Rating: 200V; Temperature Coefficient: ±300ppm/℃; Temperature Rating: -55℃~+155℃; ComponentLink1Description: Datasheet; ComponentLink1URL: https://wmsc.lcsc.com/wmsc/upload/file/pdf/v2/lcsc/2304140030_Ever-Ohms-Tech-CR1812F3R60E04Z_C429054.pdf; ComponentLink2Description: JLCPCB Part URL; ComponentLink2URL: https://jlcpcb.com/partdetail/C429054
pins: 1, 2
1 alternate drawing of the same symbol

## CR1812F4K30E04Z
designator R?  Resistance: 4.3kΩ  (hidden comment: *)
Resistor, 4.3kΩ, ±1%, 500mW, 200V, ±100ppm/℃, -55℃~+155℃, SMD 1812; Manufacturer: Uniroyal; Manufacturer Part Number: CR1812F4K30E04Z; Supplier 1: LCSC; Supplier Part Number 1: C174748; JLCPCB Part Number: C174748; Power Rating: 500mW; Category: Resistors; Package Size: 1812; JLCPCB Basic Part: Yes; Tolerance: ±1%; Voltage Rating: 200V; Temperature Coefficient: ±100ppm/℃; Temperature Rating: -55℃~+155℃; ComponentLink1Description: Datasheet; ComponentLink1URL: https://wmsc.lcsc.com/wmsc/upload/file/pdf/v2/lcsc/2304140030_Ever-Ohms-Tech-CR1812F4K30E04Z_C174748.pdf; ComponentLink2Description: JLCPCB Part URL; ComponentLink2URL: https://jlcpcb.com/partdetail/C174748
pins: 1, 2
1 alternate drawing of the same symbol

## CR1812F4R30E04S
designator R?  Resistance: 4.3Ω  (hidden comment: *)
Resistor, 4.3Ω, ±1%, 500mW, 200V, ±400ppm/℃, -55℃~+155℃, SMD 1812; Manufacturer: Uniroyal; Manufacturer Part Number: CR1812F4R30E04S; Supplier 1: LCSC; Supplier Part Number 1: C174690; JLCPCB Part Number: C174690; Power Rating: 500mW; Category: Resistors; Package Size: 1812; JLCPCB Basic Part: Yes; Tolerance: ±1%; Voltage Rating: 200V; Temperature Coefficient: ±400ppm/℃; Temperature Rating: -55℃~+155℃; ComponentLink1Description: Datasheet; ComponentLink1URL: https://wmsc.lcsc.com/wmsc/upload/file/pdf/v2/lcsc/2304140030_Ever-Ohms-Tech-CR1812F4R30E04S_C174690.pdf; ComponentLink2Description: JLCPCB Part URL; ComponentLink2URL: https://jlcpcb.com/partdetail/C174690
pins: 1, 2
1 alternate drawing of the same symbol

## CR1812F4R70E04S
designator R?  Resistance: 4.7Ω  (hidden comment: *)
Resistor, 4.7Ω, ±1%, 500mW, 200V, ±400ppm/℃, -55℃~+155℃, SMD 1812; Manufacturer: Uniroyal; Manufacturer Part Number: CR1812F4R70E04S; Supplier 1: LCSC; Supplier Part Number 1: C174691; JLCPCB Part Number: C174691; Power Rating: 500mW; Category: Resistors; Package Size: 1812; JLCPCB Basic Part: Yes; Tolerance: ±1%; Voltage Rating: 200V; Temperature Coefficient: ±400ppm/℃; Temperature Rating: -55℃~+155℃; ComponentLink1Description: Datasheet; ComponentLink1URL: https://wmsc.lcsc.com/wmsc/upload/file/pdf/v2/lcsc/2304140030_Ever-Ohms-Tech-CR1812F4R70E04S_C174691.pdf; ComponentLink2Description: JLCPCB Part URL; ComponentLink2URL: https://jlcpcb.com/partdetail/C174691
pins: 1, 2
1 alternate drawing of the same symbol

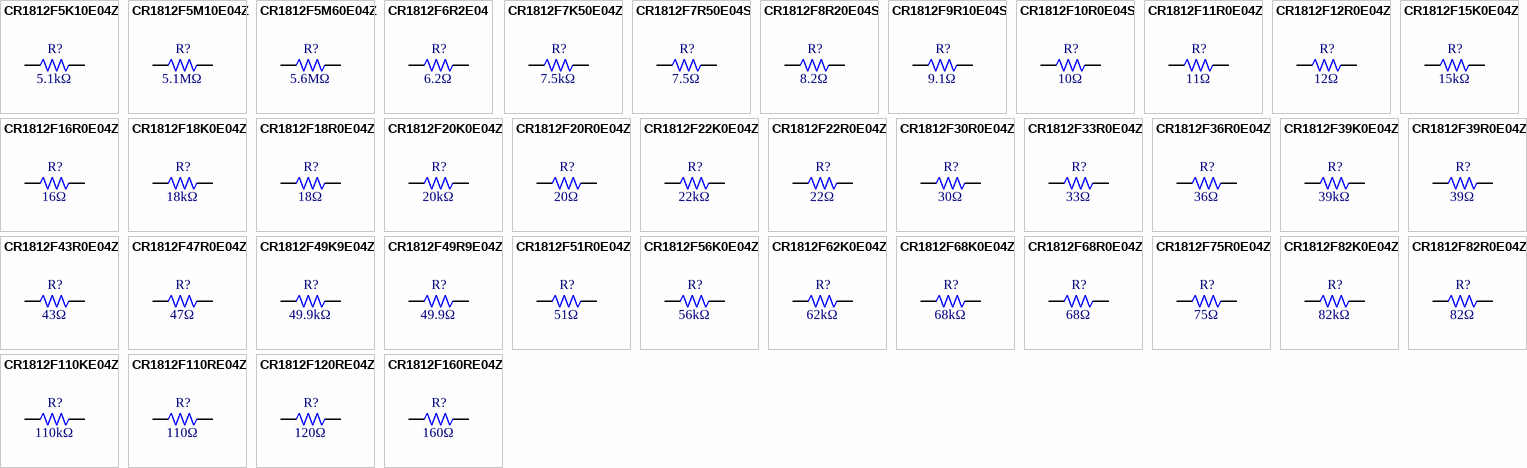
[diagram p6: symbols CR1812F5K10E04Z to CR1812F160RE04Z]

## CR1812F5K10E04Z
designator R?  Resistance: 5.1kΩ  (hidden comment: *)
Resistor, 5.1kΩ, ±1%, 500mW, 200V, ±100ppm/℃, -55℃~+155℃, SMD 1812; Manufacturer: Uniroyal; Manufacturer Part Number: CR1812F5K10E04Z; Supplier 1: LCSC; Supplier Part Number 1: C149826; JLCPCB Part Number: C149826; Power Rating: 500mW; Category: Resistors; Package Size: 1812; JLCPCB Basic Part: Yes; Tolerance: ±1%; Voltage Rating: 200V; Temperature Coefficient: ±100ppm/℃; Temperature Rating: -55℃~+155℃; ComponentLink1Description: Datasheet; ComponentLink1URL: https://wmsc.lcsc.com/wmsc/upload/file/pdf/v2/lcsc/2304140030_Ever-Ohms-Tech-CR1812F5K10E04Z_C149826.pdf; ComponentLink2Description: JLCPCB Part URL; ComponentLink2URL: https://jlcpcb.com/partdetail/C149826
pins: 1, 2
1 alternate drawing of the same symbol

## CR1812F5M10E04Z
designator R?  Resistance: 5.1MΩ  (hidden comment: *)
Resistor, 5.1MΩ, ±1%, 500mW, 200V, ±100ppm/℃, -55℃~+155℃, SMD 1812; Manufacturer: Uniroyal; Manufacturer Part Number: CR1812F5M10E04Z; Supplier 1: LCSC; Supplier Part Number 1: C174804; JLCPCB Part Number: C174804; Power Rating: 500mW; Category: Resistors; Package Size: 1812; JLCPCB Basic Part: Yes; Tolerance: ±1%; Voltage Rating: 200V; Temperature Coefficient: ±100ppm/℃; Temperature Rating: -55℃~+155℃; ComponentLink1Description: Datasheet; ComponentLink1URL: https://wmsc.lcsc.com/wmsc/upload/file/pdf/v2/lcsc/2304140030_Ever-Ohms-Tech-CR1812F5M10E04Z_C174804.pdf; ComponentLink2Description: JLCPCB Part URL; ComponentLink2URL: https://jlcpcb.com/partdetail/C174804
pins: 1, 2
1 alternate drawing of the same symbol

## CR1812F5M60E04Z
designator R?  Resistance: 5.6MΩ  (hidden comment: *)
Resistor, 5.6MΩ, ±1%, 500mW, 200V, ±100ppm/℃, -55℃~+155℃, SMD 1812; Manufacturer: Uniroyal; Manufacturer Part Number: CR1812F5M60E04Z; Supplier 1: LCSC; Supplier Part Number 1: C174805; JLCPCB Part Number: C174805; Power Rating: 500mW; Category: Resistors; Package Size: 1812; JLCPCB Basic Part: Yes; Tolerance: ±1%; Voltage Rating: 200V; Temperature Coefficient: ±100ppm/℃; Temperature Rating: -55℃~+155℃; ComponentLink1Description: Datasheet; ComponentLink1URL: https://wmsc.lcsc.com/wmsc/upload/file/pdf/v2/lcsc/2304140030_Ever-Ohms-Tech-CR1812F5M60E04Z_C174805.pdf; ComponentLink2Description: JLCPCB Part URL; ComponentLink2URL: https://jlcpcb.com/partdetail/C174805
pins: 1, 2
1 alternate drawing of the same symbol

## CR1812F6R2E04
designator R?  Resistance: 6.2Ω  (hidden comment: *)
Resistor, 6.2Ω, ±1%, 750mW, 200V, ±300ppm/℃, -55℃~+155℃, SMD 1812; Manufacturer: Uniroyal; Manufacturer Part Number: CR1812F6R2E04; Supplier 1: LCSC; Supplier Part Number 1: C429336; JLCPCB Part Number: C429336; Power Rating: 750mW; Category: Resistors; Package Size: 1812; JLCPCB Basic Part: Yes; Tolerance: ±1%; Voltage Rating: 200V; Temperature Coefficient: ±300ppm/℃; Temperature Rating: -55℃~+155℃; ComponentLink1Description: Datasheet; ComponentLink1URL: https://wmsc.lcsc.com/wmsc/upload/file/pdf/v2/lcsc/2304140030_Ever-Ohms-Tech-CR1812F6R2E04_C429336.pdf; ComponentLink2Description: JLCPCB Part URL; ComponentLink2URL: https://jlcpcb.com/partdetail/C429336
pins: 1, 2
1 alternate drawing of the same symbol

## CR1812F7K50E04Z
designator R?  Resistance: 7.5kΩ  (hidden comment: *)
Resistor, 7.5kΩ, ±1%, 500mW, 200V, ±100ppm/℃, -55℃~+155℃, SMD 1812; Manufacturer: Uniroyal; Manufacturer Part Number: CR1812F7K50E04Z; Supplier 1: LCSC; Supplier Part Number 1: C174753; JLCPCB Part Number: C174753; Power Rating: 500mW; Category: Resistors; Package Size: 1812; JLCPCB Basic Part: Yes; Tolerance: ±1%; Voltage Rating: 200V; Temperature Coefficient: ±100ppm/℃; Temperature Rating: -55℃~+155℃; ComponentLink1Description: Datasheet; ComponentLink1URL: https://wmsc.lcsc.com/wmsc/upload/file/pdf/v2/lcsc/2304140030_Ever-Ohms-Tech-CR1812F7K50E04Z_C174753.pdf; ComponentLink2Description: JLCPCB Part URL; ComponentLink2URL: https://jlcpcb.com/partdetail/C174753
pins: 1, 2
1 alternate drawing of the same symbol

## CR1812F7R50E04S
designator R?  Resistance: 7.5Ω  (hidden comment: *)
Resistor, 7.5Ω, ±1%, 500mW, 200V, ±400ppm/℃, -55℃~+155℃, SMD 1812; Manufacturer: Uniroyal; Manufacturer Part Number: CR1812F7R50E04S; Supplier 1: LCSC; Supplier Part Number 1: C174694; JLCPCB Part Number: C174694; Power Rating: 500mW; Category: Resistors; Package Size: 1812; JLCPCB Basic Part: Yes; Tolerance: ±1%; Voltage Rating: 200V; Temperature Coefficient: ±400ppm/℃; Temperature Rating: -55℃~+155℃; ComponentLink1Description: Datasheet; ComponentLink1URL: https://wmsc.lcsc.com/wmsc/upload/file/pdf/v2/lcsc/2304140030_Ever-Ohms-Tech-CR1812F7R50E04S_C174694.pdf; ComponentLink2Description: JLCPCB Part URL; ComponentLink2URL: https://jlcpcb.com/partdetail/C174694
pins: 1, 2
1 alternate drawing of the same symbol

## CR1812F8R20E04S
designator R?  Resistance: 8.2Ω  (hidden comment: *)
Resistor, 8.2Ω, ±1%, 500mW, 200V, ±400ppm/℃, -55℃~+155℃, SMD 1812; Manufacturer: Uniroyal; Manufacturer Part Number: CR1812F8R20E04S; Supplier 1: LCSC; Supplier Part Number 1: C174695; JLCPCB Part Number: C174695; Power Rating: 500mW; Category: Resistors; Package Size: 1812; JLCPCB Basic Part: Yes; Tolerance: ±1%; Voltage Rating: 200V; Temperature Coefficient: ±400ppm/℃; Temperature Rating: -55℃~+155℃; ComponentLink1Description: Datasheet; ComponentLink1URL: https://wmsc.lcsc.com/wmsc/upload/file/pdf/v2/lcsc/2304140030_Ever-Ohms-Tech-CR1812F8R20E04S_C174695.pdf; ComponentLink2Description: JLCPCB Part URL; ComponentLink2URL: https://jlcpcb.com/partdetail/C174695
pins: 1, 2
1 alternate drawing of the same symbol

## CR1812F9R10E04S
designator R?  Resistance: 9.1Ω  (hidden comment: *)
Resistor, 9.1Ω, ±1%, 500mW, 200V, ±400ppm/℃, -55℃~+155℃, SMD 1812; Manufacturer: Uniroyal; Manufacturer Part Number: CR1812F9R10E04S; Supplier 1: LCSC; Supplier Part Number 1: C174696; JLCPCB Part Number: C174696; Power Rating: 500mW; Category: Resistors; Package Size: 1812; JLCPCB Basic Part: Yes; Tolerance: ±1%; Voltage Rating: 200V; Temperature Coefficient: ±400ppm/℃; Temperature Rating: -55℃~+155℃; ComponentLink1Description: Datasheet; ComponentLink1URL: https://wmsc.lcsc.com/wmsc/upload/file/pdf/v2/lcsc/2304140030_Ever-Ohms-Tech-CR1812F9R10E04S_C174696.pdf; ComponentLink2Description: JLCPCB Part URL; ComponentLink2URL: https://jlcpcb.com/partdetail/C174696
pins: 1, 2
1 alternate drawing of the same symbol

## CR1812F10R0E04S
designator R?  Resistance: 10Ω  (hidden comment: *)
Resistor, 10Ω, ±1%, 500mW, 200V, ±100ppm/℃, -55℃~+155℃, SMD 1812; Manufacturer: Uniroyal; Manufacturer Part Number: CR1812F10R0E04S; Supplier 1: LCSC; Supplier Part Number 1: C174697; JLCPCB Part Number: C174697; Power Rating: 500mW; Category: Resistors; Package Size: 1812; JLCPCB Basic Part: Yes; Tolerance: ±1%; Voltage Rating: 200V; Temperature Coefficient: ±100ppm/℃; Temperature Rating: -55℃~+155℃; ComponentLink1Description: Datasheet; ComponentLink1URL: https://wmsc.lcsc.com/wmsc/upload/file/pdf/v2/lcsc/2304140030_Ever-Ohms-Tech-CR1812F10R0E04S_C174697.pdf; ComponentLink2Description: JLCPCB Part URL; ComponentLink2URL: https://jlcpcb.com/partdetail/C174697
pins: 1, 2
1 alternate drawing of the same symbol